# Altium schematic symbol library MM3Z2V4B.Schlib: 1 symbol
Pins are listed as number, name and electrical type; pins without a type are passive.

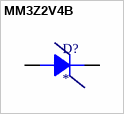
[diagram p0: symbol MM3Z2V4B]

## MM3Z2V4B
designator D?
pins: 1 A, 2 K